# Altium footprint library Arduino.PcbLib: 23 footprints (part 2 of 2)
Each footprint in its own frame and in the unit in brackets; x right, y up, seen from the top. Pads: shape width x height; smd on the part's side, far side on the other; paste and mask are expansions set on the pad; w line width, h text height; cw(c..) or ccw(c..) is an arc to the next point about the centre after c.
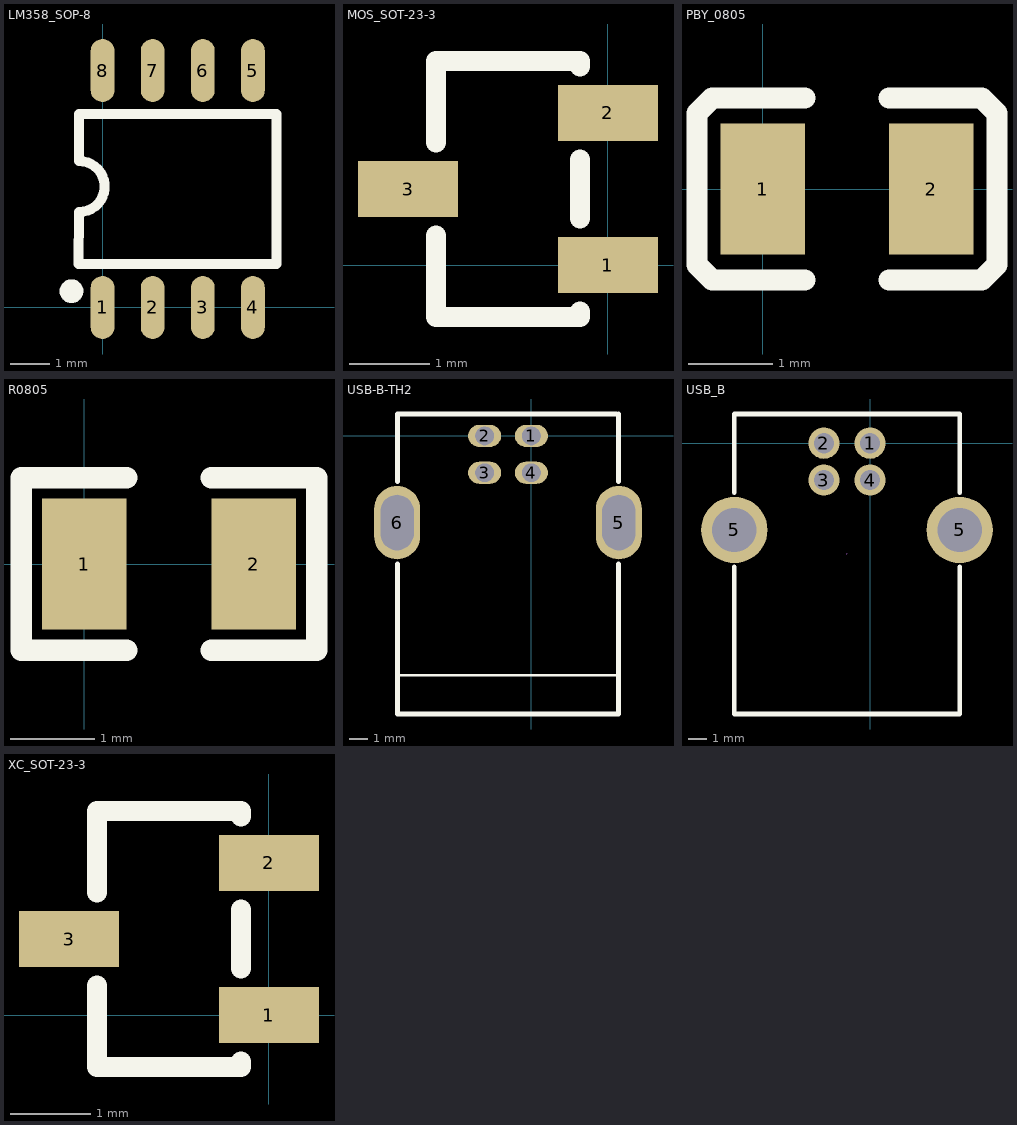
[diagram p1: the footprints below, top view; thin cyan lines are the x and y axes]

## LM358_SOP-8 [mm]
pads (8):
  oval 0.6x1.598 smd: 1(0,0) 2(1.27,0) 3(2.54,0) 4(3.81,0) 5(3.81,6) 6(2.54,6) 7(1.27,6) 8(0,6)
Top Overlay:
  lines w0.254: -0.61,1.095 -0.595,2.416 ccw(c-0.595,3.063) -0.595,3.711 ; -0.595,1.1 4.405,1.1 4.405,4.9 -0.595,4.9 -0.595,3.711
  lines w0.3: -0.787,0.562 ccw(c-0.786,0.412) -0.785,0.562

## MOS_SOT-23-3 [mm]
pads (3):
  rect 1.25x0.7 smd: 1(0,0) 2(0,1.9) 3(-2.499,0.95)
Top Overlay:
  lines w0.254: -2.15,0.369 -2.15,-0.65 -0.35,-0.65 -0.35,-0.581 ; -2.15,1.531 -2.15,2.55 -0.35,2.55 -0.35,2.481 ; -0.35,0.581 -0.35,1.319

## PBY_0805 [mm]
pads (2):
  rect 1x1.55 smd: 1(0,0) 2(2,0)
Top Overlay:
  lines w0.254: 0.5,-1.08 -0.55,-1.08 -0.6,-1.08 -0.78,-0.9 -0.78,0.9 -0.6,1.08 -0.55,1.08 0.5,1.08 ; 1.5,-1.08 2.55,-1.08 2.6,-1.08 2.78,-0.9 2.78,0.9 2.6,1.08 2.55,1.08 1.5,1.08

## R0805 [mm]
pads (2):
  rect 1x1.55 smd: 1(0,0) 2(2,0)
Top Overlay:
  lines w0.254: 0.5,-1.02 -0.75,-1.02 -0.75,1.02 0.5,1.02 ; 1.5,-1.02 2.75,-1.02 2.75,1.02 1.5,1.02

## USB-B-TH2 [mm]
pads (6):
  oval 1.8x1.2 hole 1: 1(0,0) 2(-2.54,0) 3(-2.54,-2) 4(0,-2)
  oval 2.5x4 hole 1.8 slot 3 at 90 deg: 5(4.755,-4.71) 6(-7.295,-4.71)
Top Overlay:
  lines w0.127: -7.27,-13 4.73,-13
  lines w0.254: -7.27,-6.941 -7.27,-15.11 4.73,-15.11 4.73,-6.941 ; -7.27,-2.479 -7.27,1.19 4.605,1.19 ; 4.73,-2.479 4.73,1.19

## USB_B [mm] "USB_B_THOL"
pads (6):
  round 1.7 hole 1.1: 1(0,0) 2(-2.5,0) 3(-2.5,-2) 4(0,-2)
  round 3.6 hole 2.4: 5(-7.366,-4.71) 5(4.866,-4.71)
Top Overlay:
  lines w0.254: -7.366,-6.709 -7.366,-14.698 4.866,-14.698 ; -7.366,-2.691 -7.366,1.586 ; 4.866,-14.696 4.866,-6.709 ; 4.866,-2.691 4.866,1.586
  lines w0.258: -7.366,-14.698 4.866,-14.698 ; -7.366,1.586 4.866,1.586
Mechanical 15:
  lines w0.003: -1.275,-6.026 -1.225,-5.975

## XC_SOT-23-3 [mm]
pads (3):
  rect 1.25x0.7 smd: 1(0,0) 2(0,1.9) 3(-2.499,0.95)
Top Overlay:
  lines w0.254: -2.15,0.369 -2.15,-0.65 -0.35,-0.65 -0.35,-0.581 ; -2.15,1.531 -2.15,2.55 -0.35,2.55 -0.35,2.481 ; -0.35,0.581 -0.35,1.319